# Altium integrated library ECEA1HKS100.IntLib: 1 symbol
Pins are listed as number, name and electrical type; pins without a type are passive.

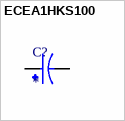
[diagram p0: symbol ECEA1HKS100]

## ECEA1HKS100
designator C?
Cap Aluminum Lytic 10uF 50V 20% (6.3 X 5mm) Radial 2.5mm 35mA 1000h 85C Automotive Bulk; MP: ECE-A1HKS100; MF: Panasonic; Package: RADIAL-2 Panasonic; SnapEDA_Link: https://www.snapeda.com/parts/ECE-A1HKS100/Panasonic/view-part/?ref=snap; Value: *; Availability: In Stock; Price: None; Purchase-URL: https://pricing.snapeda.com/search/part/ECE-A1HKS100/?ref=eda; Check_prices: https://www.snapeda.com/parts/ECE-A1HKS100/Panasonic/view-part/?ref=eda
footprint CAPPRD250W45D630H500
pins: N, P